# EAGLE library part SWITCH_DIP_6 (library TEABOX-LIB)
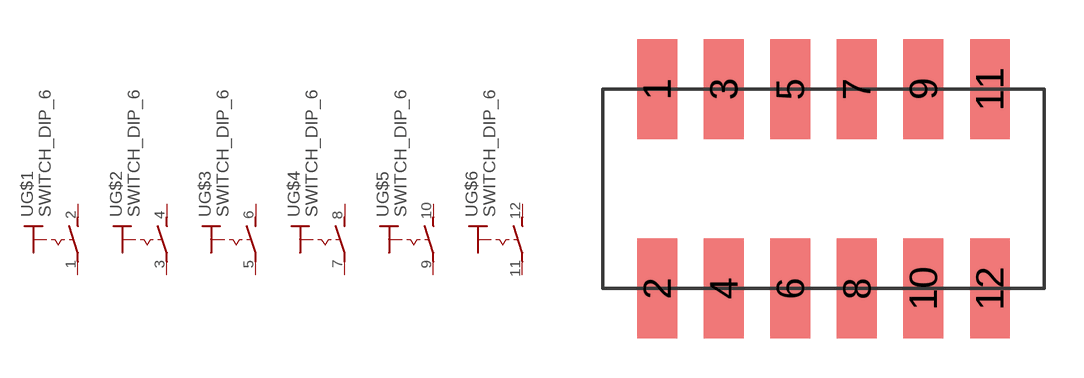
[diagram p26: symbol with the pads of SWITCH_DIP_CTS_204-6ST; footprint SWITCH_DIP_CTS_204-6ST]

Designator prefix -; gates G$1=SWITCH_SPST G$2=SWITCH_SPST G$3=SWITCH_SPST G$4=SWITCH_SPST G$5=SWITCH_SPST G$6=SWITCH_SPST

## SWITCH_DIP_6  [SWITCH_DIP_CTS_204-6ST]
1  G$1:P  pas
2  G$1:S  pas
3  G$2:P  pas
4  G$2:S  pas
5  G$3:P  pas
6  G$3:S  pas
7  G$4:P  pas
8  G$4:S  pas
9  G$5:P  pas
10  G$5:S  pas
11  G$6:P  pas
12  G$6:S  pas

## Footprint SWITCH_DIP_CTS_204-6ST (pad centres in mm)
smd 1.524 x 3.81: 1 2.54,7.62; 2 2.54,0; 3 5.08,7.62; 4 5.08,0; 5 7.62,7.62; 6 7.62,0; 7 10.16,7.62; 8 10.16,0; 9 12.7,7.62; 10 12.7,0; 11 15.24,7.62; 12 15.24,0